# EAGLE library part 2X41464C (library commodore)
MEMORY
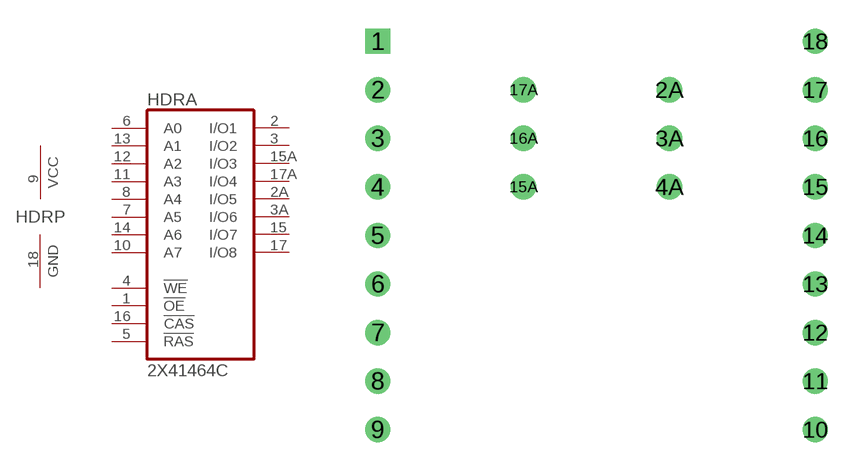
[diagram p55: symbol with the pads of 2XDIL18_REV; footprint 2XDIL18_REV]

Designator prefix HDR; gates A=4464X8_DRAM P=PWRGND

## 2X41464C-HDR  [2XDIL18_REV]
1  A:!OE  in
2  A:I/O1
2A  A:I/O5
3  A:I/O2
3A  A:I/O6
4  A:!WE  in
5  A:!RAS  in
6  A:A0  in
7  A:A5  in
8  A:A4  in
9  P:VCC  pwr
10  A:A7  in
11  A:A3  in
12  A:A2  in
13  A:A1  in
14  A:A6  in
15  A:I/O7
15A  A:I/O3
16  A:!CAS  in
17  A:I/O8
17A  A:I/O4
18  P:GND  pwr

## Footprint 2XDIL18_REV (pad centres in mm)
Dual In Line Package
drill 0.813 square: 1 -11.43,10.16
drill 0.813: 2 -11.43,7.62; 2A 3.81,7.62; 3 -11.43,5.08; 3A 3.81,5.08; 4 -11.43,2.54; 4A 3.81,2.54; 5 -11.43,0; 6 -11.43,-2.54; 7 -11.43,-5.08; 8 -11.43,-7.62; 9 -11.43,-10.16; 10 11.43,-10.16; 11 11.43,-7.62; 12 11.43,-5.08; 13 11.43,-2.54; 14 11.43,0; 15 11.43,2.54; 15A -3.81,2.54; 16 11.43,5.08; 16A -3.81,5.08; 17 11.43,7.62; 17A -3.81,7.62; 18 11.43,10.16